# EAGLE library part LTC4365 (library linear-technology)
Supply Protection Controller Overvoltage, Undervoltage and Reverse
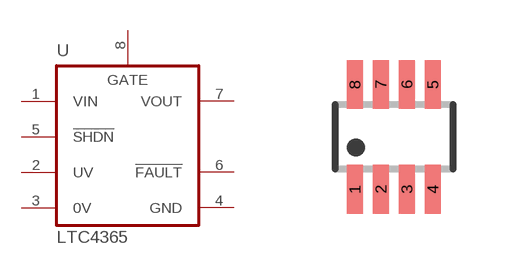
[diagram p63: symbol with the pads of TSOT23-8; footprint TSOT23-8]

Designator prefix U

## LTC4365TS8  [TSOT23-8]
1  VIN  in
2  UV  in
3  0V  in
4  GND  in
5  !SHDN!
6  !FAULT!  oc
7  VOUT  pas
8  GATE  out

## Footprint TSOT23-8 (pad centres in mm)
TSOT-23 - TS8 0.65 mm pitch
smd 0.4 x 1.22: 1 -0.975,-1.31; 2 -0.325,-1.31; 3 0.325,-1.31; 4 0.975,-1.31; 5 0.975,1.31; 6 0.325,1.31; 7 -0.325,1.31; 8 -0.975,1.31